# Altium footprint library SOIC127P1030X245-18N.PcbLib: 1 footprints
Each footprint in its own frame and in the unit in brackets; x right, y up, seen from the top. Pads: shape width x height; smd on the part's side, far side on the other; paste and mask are expansions set on the pad; w line width, h text height; cw(c..) or ccw(c..) is an arc to the next point about the centre after c.
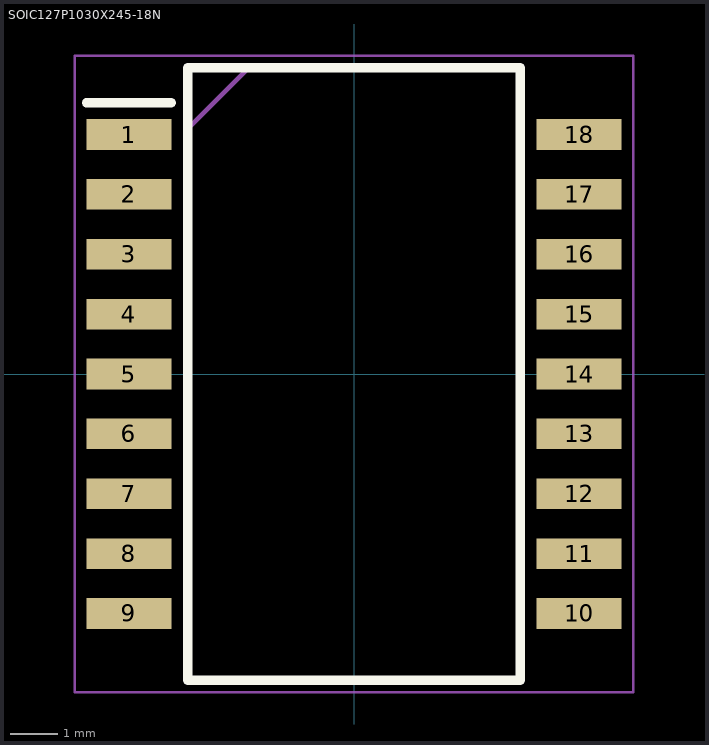
[diagram p0: the footprint, top view; thin cyan lines are the x and y axes]

## SOIC127P1030X245-18N [mm]
pads (18):
  rect 1.8x0.65 smd: 1(-4.775,5.08) 2(-4.775,3.81) 3(-4.775,2.54) 4(-4.775,1.27) 5(-4.775,0) 6(-4.775,-1.27) 7(-4.775,-2.54) 8(-4.775,-3.81) 9(-4.775,-5.08) 10(4.775,-5.08) 11(4.775,-3.81) 12(4.775,-2.54) 13(4.775,-1.27) 14(4.775,0) 15(4.775,1.27) 16(4.775,2.54) 17(4.775,3.81) 18(4.775,5.08)
Top Overlay:
  lines w0.2: -5.675,5.755 -3.875,5.755 ; -3.525,-6.5 3.525,-6.5 3.525,6.5 -3.525,6.5 -3.525,-6.5
Mechanical 15:
  lines w0.1: -3.5,5.23 -2.23,6.5 ; -3.5,-6.5 3.5,-6.5 3.5,6.5 -3.5,6.5 -3.5,-6.5
Mechanical 20:
  lines w0.05: -5.925,-6.75 5.925,-6.75 5.925,6.75 -5.925,6.75 -5.925,-6.75